# Altium schematic symbol library SMD_Schematic_lib.SchLib: 1 symbol
Pins are listed as number, name and electrical type; pins without a type are passive.

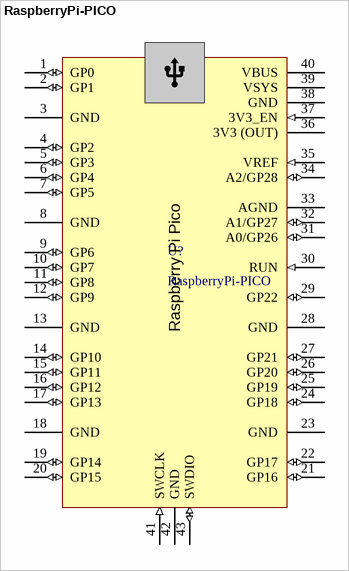
[diagram p0: symbol RaspberryPi-PICO]

## RaspberryPi-PICO
designator U?
Compute Module; 512Mb RAM; 4GB Flash; 67.6x30mm; BCM2835; Fits into DDR2 SODIMM; Manufacturer Part Number: RASPBERRY PI COMPUTE BOARD; Evaluation Kit: Yes; Core Architecture: ARM; Supplier 1: Digi-Key; Manufacturer: Raspberry Pi; RoHS: Yes; Category: Single Board Computers (SBCs); Case/Package: Module; ComponentLink1URL: https://media.digikey.com/pdf/Data%20Sheets/Raspberry%20Pi%20PDFs/Compute_Module_Web.pdf?src-supplier=Digi-Key; ComponentLink1Description: https://media.digikey.com/pdf/Data%20Sheets/Raspberry%20Pi%20PDFs/Compute_Module_Web.pdf?src-supplier=Digi-Key; Supplier Part Number 1: 1690-1003-ND
footprint RaspberryPiPico
pins: 1 GP0 (io), 2 GP1 (io), 3 GND (power), 4 GP2 (io), 5 GP3 (io), 6 GP4 (io), 7 GP5 (io), 8 GND (power), 9 GP6 (io), 10 GP7 (io), 11 GP8 (io), 12 GP9 (io), 13 GND (power), 14 GP10 (io), 15 GP11 (io), 16 GP12 (io), 17 GP13 (io), 18 GND (power), 19 GP14 (io), 20 GP15 (io), 21 GP16 (io), 22 GP17 (io), 23 GND (power), 24 GP18 (io), 25 GP19 (io), 26 GP20 (io), 27 GP21 (io), 28 GND (power), 29 GP22 (io), 30 RUN (in), 31 A0/GP26 (io), 32 A1/GP27 (io), 33 AGND (power), 34 A2/GP28 (io), 35 VREF (in), 36 3V3 (OUT) (power), 37 3V3_EN (in), 38 GND (power), 39 VSYS (power), 40 VBUS (power), 41 SWCLK (in), 42 GND (power), 43 SWDIO (io)
text: Raspberry Pi Pico